# Altium footprint library RES0603.PcbLib: 1 footprints
Each footprint in its own frame and in the unit in brackets; x right, y up, seen from the top. Pads: shape width x height; smd on the part's side, far side on the other; paste and mask are expansions set on the pad; w line width, h text height; cw(c..) or ccw(c..) is an arc to the next point about the centre after c.
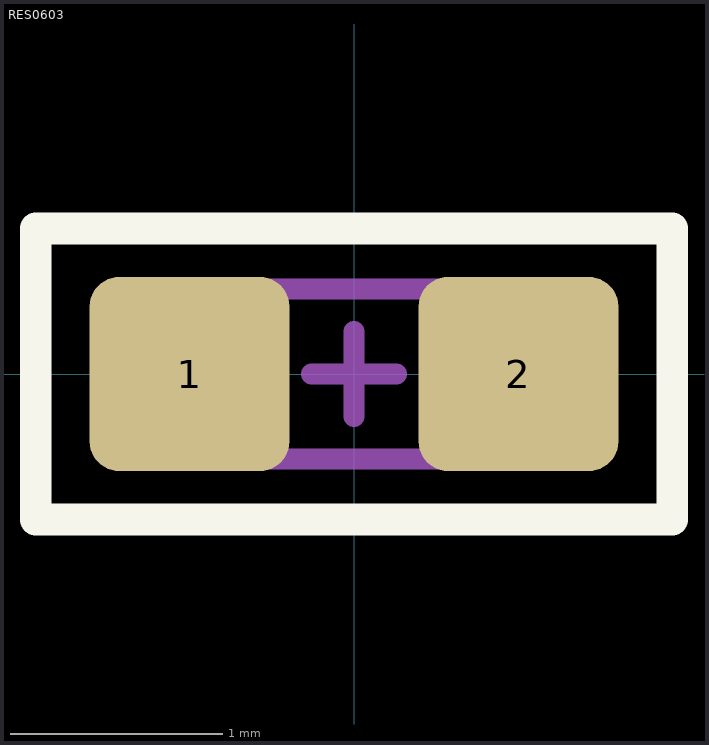
[diagram p0: the footprint, top view; thin cyan lines are the x and y axes]

## RES0603 [mil] "Generic 0603"
pads (2):
  rrect30% 37x36 smd mask+4: 1(-30.5,0) 2(30.5,0)
Top Overlay:
  lines w5.91: -59,-27 59,-27 59,27 -59,27 -59,-27
Top Designator:
  text ".Designator" at -299.9,-19.99 h60
3D Body:
  lines w3.94: -31.5,-15.75 -31.5,15.75 31.5,15.75 31.5,-15.75 -31.5,-15.75
Center Cross:
  lines w3.94: -7.87,0 7.87,0 ; 0,-7.87 0,7.87
3D body "RES0603.stp": height 17.72, standoff 0, extent -31.5,-15.75 31.5,15.75